# Altium footprint library PCB - CONNECTORS - MOLEX 67800-5005.PCBLIB: 1 footprints
Each footprint in its own frame and in the unit in brackets; x right, y up, seen from the top. Pads: shape width x height; smd on the part's side, far side on the other; paste and mask are expansions set on the pad; w line width, h text height; cw(c..) or ccw(c..) is an arc to the next point about the centre after c.
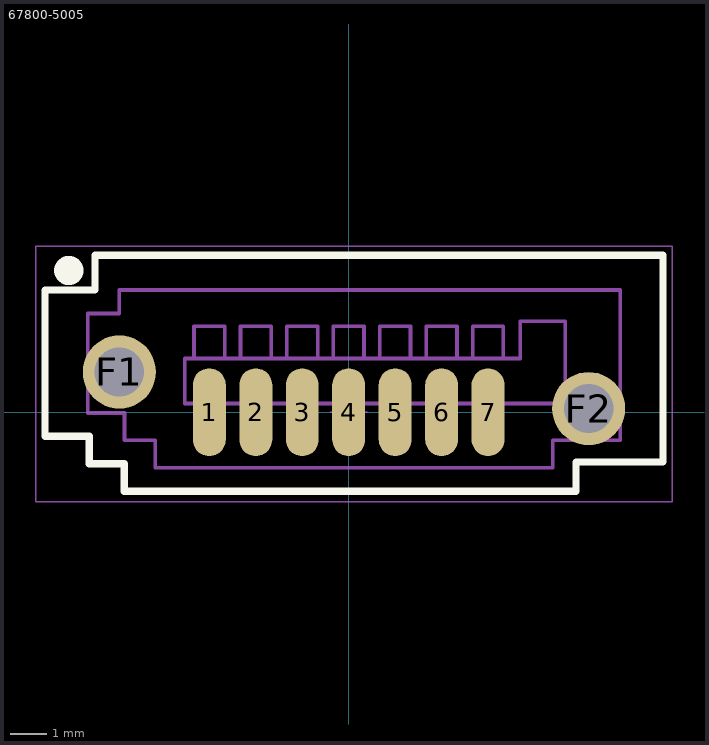
[diagram p0: the footprint, top view; thin cyan lines are the x and y axes]

## 67800-5005 [mm]
height 8.4
pads (9):
  oval 0.9x2.4 smd: 1(-3.81,0) 2(-2.54,0) 3(-1.27,0) 4(0,0) 5(1.27,0) 6(2.54,0) 7(3.81,0)
  round 2 hole 1.35: F1(-6.27,1.1) F2(6.56,0.1)
Top Overlay:
  circle w0.4: c-7.655,3.875 r0.2
  lines w0.2: -7.095,-1.41 -6.135,-1.41 -6.135,-2.16 6.215,-2.16 6.215,-1.36 8.595,-1.36 8.595,4.29 -6.935,4.29 -6.935,3.34 -8.305,3.34 -8.305,-0.66 -7.09,-0.66 -7.09,-1.41
Mechanical 13:
  circle w0.1: c-6.27,1.1 r0.5
  circle w0.1: c6.56,0.1 r0.5
  lines w0.1: -7.135,-0.02 -7.135,2.7 ; -7.13,-0.02 -6.13,-0.02 -6.13,-0.77 ; -7.13,2.7 -6.275,2.7 -6.275,3.34 7.425,3.34 7.425,-0.77 5.575,-0.77 5.575,-1.52 -5.285,-1.52 -5.285,-0.77 -6.135,-0.77 ; -7.095,-1.41 -6.135,-1.41 -6.135,-2.16 6.215,-2.16 6.215,-1.36 8.595,-1.36 8.595,4.29 -6.935,4.29 -6.935,3.34 -8.305,3.34 -8.305,-0.66 -7.09,-0.66 -7.09,-1.41 ; -4.23,1.47 -4.23,2.35 -3.39,2.35 -3.39,1.47 ; -2.96,1.47 -2.96,2.35 -2.12,2.35 -2.12,1.47 ; -1.69,1.47 -1.69,2.35 -0.85,2.35 -0.85,1.47 ; -0.42,1.47 -0.42,2.35 0.42,2.35 0.42,1.47 ; 0.85,1.47 0.85,2.35 1.69,2.35 1.69,1.47 ; 2.12,1.47 2.12,2.35 2.96,2.35 2.96,1.47 ; 3.39,1.47 3.39,2.35 4.23,2.35 4.23,1.47 ; -4.485,0.24 5.925,0.24 5.925,2.49 4.695,2.49 4.695,1.47 -4.485,1.47 -4.485,0.24
  text ".Designator" at -0.5,-1.1 h1
  text "1" at -3.885,2.51 h0.6
  text "2" at -2.73,2.51 h0.6
  text "3" at -1.47,2.51 h0.6
  text "4" at -0.21,2.51 h0.6
  text "5" at 1.05,2.51 h0.6
  text "6" at 2.31,2.51 h0.6
  text "7" at 3.675,2.51 h0.6
Mechanical 15:
  lines w0.05: -0.5,0 0.5,0 ; 0,-0.5 0,0.5 ; -8.555,-2.45 8.845,-2.45 8.845,4.54 -8.555,4.54 -8.555,-2.45
3D body "678005005.stp": height 8.6, standoff -2.45, extent -8.305,-2.16 8.595,4.29